# Altium footprint library Connector_Samtec_FSI.PcbLib: 90 footprints (part 4 of 6)
Each footprint in its own frame and in the unit in brackets; x right, y up, seen from the top. Pads: shape width x height; smd on the part's side, far side on the other; paste and mask are expansions set on the pad; w line width, h text height; cw(c..) or ccw(c..) is an arc to the next point about the centre after c.
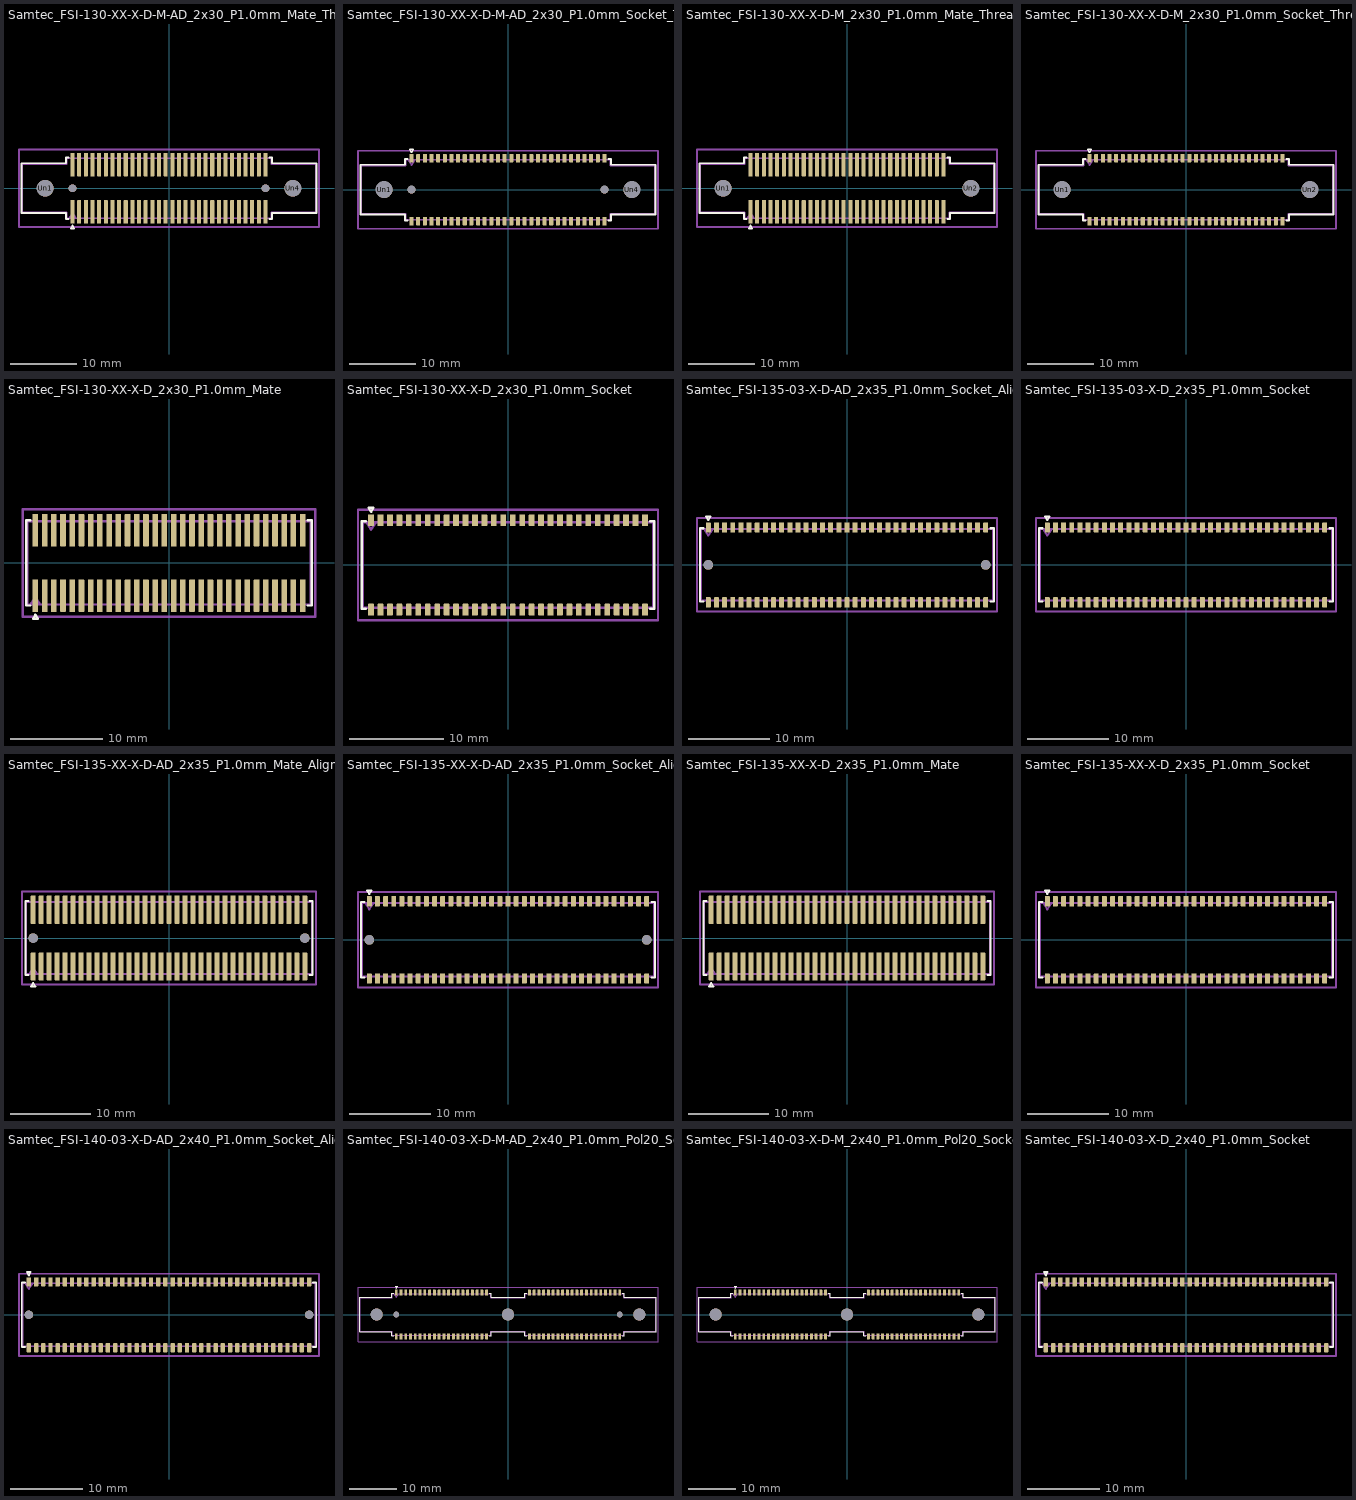
[diagram p3: the footprints below, top view; thin cyan lines are the x and y axes]

## Samtec_FSI-130-XX-X-D-M-AD_2x30_P1.0mm_Mate_Threaded_AlignmentPin [mm]
pads (64):
  rrect25% 0.61x3.55 smd: 1(-14.5,-3.555) 2(-14.5,3.555) 3(-13.5,-3.555) 4(-13.5,3.555) 5(-12.5,-3.555) 6(-12.5,3.555) 7(-11.5,-3.555) 8(-11.5,3.555) 9(-10.5,-3.555) 10(-10.5,3.555) 11(-9.5,-3.555) 12(-9.5,3.555) 13(-8.5,-3.555) 14(-8.5,3.555) 15(-7.5,-3.555) 16(-7.5,3.555) 17(-6.5,-3.555) 18(-6.5,3.555) 19(-5.5,-3.555) 20(-5.5,3.555) 21(-4.5,-3.555) 22(-4.5,3.555) 23(-3.5,-3.555) 24(-3.5,3.555) 25(-2.5,-3.555) 26(-2.5,3.555) 27(-1.5,-3.555) 28(-1.5,3.555) 29(-0.5,-3.555) 30(-0.5,3.555) 31(0.5,-3.555) 32(0.5,3.555) 33(1.5,-3.555) 34(1.5,3.555) 35(2.5,-3.555) 36(2.5,3.555) 37(3.5,-3.555) 38(3.5,3.555) 39(4.5,-3.555) 40(4.5,3.555) 41(5.5,-3.555) 42(5.5,3.555) 43(6.5,-3.555) 44(6.5,3.555) 45(7.5,-3.555) 46(7.5,3.555) 47(8.5,-3.555) 48(8.5,3.555) 49(9.5,-3.555) 50(9.5,3.555) 51(10.5,-3.555) 52(10.5,3.555) 53(11.5,-3.555) 54(11.5,3.555) 55(12.5,-3.555) 56(12.5,3.555) 57(13.5,-3.555) 58(13.5,3.555) 59(14.5,-3.555) 60(14.5,3.555)
  round 2.54 hole 2.54: Un1(-18.62,0) Un4(18.62,0)
  round 1.19 hole 1.19: Un2(-14.5,0) Un3(14.5,0)
F.SilkS:
  lines w0.254: -15.065,-4.618 -15.49,-4.618 -15.49,-3.734 -22.16,-3.734 -22.16,3.734 -15.49,3.734 -15.49,4.618 -15.065,4.618 ; 15.065,-4.618 15.49,-4.618 15.49,-3.734 22.16,-3.734 22.16,3.734 15.49,3.734 15.49,4.618 15.065,4.618 ; -14.764,-6.066 -14.236,-6.066 -14.5,-5.609 -14.764,-6.066
Top Assembly:
  lines w0.254: -15,-4.508 -14.5,-3.708 -14,-4.508 ; -22.05,-3.624 -15.38,-3.624 -15.38,-4.508 15.38,-4.508 15.38,-3.624 22.05,-3.624 22.05,3.624 15.38,3.624 15.38,4.508 -15.38,4.508 -15.38,3.624 -22.05,3.624 -22.05,-3.624
  text "'.Designator'" at -4.047,-0.84 h1
Top Courtyard:
  lines w0.254: -22.55,-5.83 22.55,-5.83 22.55,5.83 -22.55,5.83 -22.55,-5.83
Top Designator:
  text ".Designator" at -7.618,-0.626 h1.52

## Samtec_FSI-130-XX-X-D-M-AD_2x30_P1.0mm_Socket_Threaded_AlignmentPin [mm]
pads (64):
  rrect25% 0.61x1.26 smd: 1(-14.5,4.73) 2(-14.5,-4.73) 3(-13.5,4.73) 4(-13.5,-4.73) 5(-12.5,4.73) 6(-12.5,-4.73) 7(-11.5,4.73) 8(-11.5,-4.73) 9(-10.5,4.73) 10(-10.5,-4.73) 11(-9.5,4.73) 12(-9.5,-4.73) 13(-8.5,4.73) 14(-8.5,-4.73) 15(-7.5,4.73) 16(-7.5,-4.73) 17(-6.5,4.73) 18(-6.5,-4.73) 19(-5.5,4.73) 20(-5.5,-4.73) 21(-4.5,4.73) 22(-4.5,-4.73) 23(-3.5,4.73) 24(-3.5,-4.73) 25(-2.5,4.73) 26(-2.5,-4.73) 27(-1.5,4.73) 28(-1.5,-4.73) 29(-0.5,4.73) 30(-0.5,-4.73) 31(0.5,4.73) 32(0.5,-4.73) 33(1.5,4.73) 34(1.5,-4.73) 35(2.5,4.73) 36(2.5,-4.73) 37(3.5,4.73) 38(3.5,-4.73) 39(4.5,4.73) 40(4.5,-4.73) 41(5.5,4.73) 42(5.5,-4.73) 43(6.5,4.73) 44(6.5,-4.73) 45(7.5,4.73) 46(7.5,-4.73) 47(8.5,4.73) 48(8.5,-4.73) 49(9.5,4.73) 50(9.5,-4.73) 51(10.5,4.73) 52(10.5,-4.73) 53(11.5,4.73) 54(11.5,-4.73) 55(12.5,4.73) 56(12.5,-4.73) 57(13.5,4.73) 58(13.5,-4.73) 59(14.5,4.73) 60(14.5,-4.73)
  round 2.54 hole 2.54: Un1(-18.62,0) Un4(18.62,0)
  round 1.19 hole 1.19: Un2(-14.5,0) Un3(14.5,0)
F.SilkS:
  lines w0.254: -15.065,-4.618 -15.49,-4.618 -15.49,-3.734 -22.16,-3.734 -22.16,3.734 -15.49,3.734 -15.49,4.618 -15.065,4.618 ; -14.507,5.62 -14.764,6.066 -14.236,6.066 -14.493,5.62 ; 15.065,-4.618 15.49,-4.618 15.49,-3.734 22.16,-3.734 22.16,3.734 15.49,3.734 15.49,4.618 15.065,4.618
Top Assembly:
  lines w0.254: -15,4.508 -14.5,3.708 -14,4.508 ; -22.05,-3.624 -15.38,-3.624 -15.38,-4.508 15.38,-4.508 15.38,-3.624 22.05,-3.624 22.05,3.624 15.38,3.624 15.38,4.508 -15.38,4.508 -15.38,3.624 -22.05,3.624 -22.05,-3.624
  text "'.Designator'" at -4.047,-0.84 h1
Top Courtyard:
  lines w0.254: -22.55,-5.86 22.55,-5.86 22.55,5.86 -22.55,5.86 -22.55,-5.86
Top Designator:
  text ".Designator" at -7.618,-0.405 h1.52

## Samtec_FSI-130-XX-X-D-M_2x30_P1.0mm_Mate_Threaded [mm]
pads (62):
  rrect25% 0.61x3.55 smd: 1(-14.5,-3.555) 2(-14.5,3.555) 3(-13.5,-3.555) 4(-13.5,3.555) 5(-12.5,-3.555) 6(-12.5,3.555) 7(-11.5,-3.555) 8(-11.5,3.555) 9(-10.5,-3.555) 10(-10.5,3.555) 11(-9.5,-3.555) 12(-9.5,3.555) 13(-8.5,-3.555) 14(-8.5,3.555) 15(-7.5,-3.555) 16(-7.5,3.555) 17(-6.5,-3.555) 18(-6.5,3.555) 19(-5.5,-3.555) 20(-5.5,3.555) 21(-4.5,-3.555) 22(-4.5,3.555) 23(-3.5,-3.555) 24(-3.5,3.555) 25(-2.5,-3.555) 26(-2.5,3.555) 27(-1.5,-3.555) 28(-1.5,3.555) 29(-0.5,-3.555) 30(-0.5,3.555) 31(0.5,-3.555) 32(0.5,3.555) 33(1.5,-3.555) 34(1.5,3.555) 35(2.5,-3.555) 36(2.5,3.555) 37(3.5,-3.555) 38(3.5,3.555) 39(4.5,-3.555) 40(4.5,3.555) 41(5.5,-3.555) 42(5.5,3.555) 43(6.5,-3.555) 44(6.5,3.555) 45(7.5,-3.555) 46(7.5,3.555) 47(8.5,-3.555) 48(8.5,3.555) 49(9.5,-3.555) 50(9.5,3.555) 51(10.5,-3.555) 52(10.5,3.555) 53(11.5,-3.555) 54(11.5,3.555) 55(12.5,-3.555) 56(12.5,3.555) 57(13.5,-3.555) 58(13.5,3.555) 59(14.5,-3.555) 60(14.5,3.555)
  round 2.54 hole 2.54: Un1(-18.62,0) Un2(18.62,0)
F.SilkS:
  lines w0.254: -15.065,-4.618 -15.49,-4.618 -15.49,-3.734 -22.16,-3.734 -22.16,3.734 -15.49,3.734 -15.49,4.618 -15.065,4.618 ; 15.065,-4.618 15.49,-4.618 15.49,-3.734 22.16,-3.734 22.16,3.734 15.49,3.734 15.49,4.618 15.065,4.618 ; -14.764,-6.066 -14.236,-6.066 -14.5,-5.609 -14.764,-6.066
Top Assembly:
  lines w0.254: -15,-4.508 -14.5,-3.708 -14,-4.508 ; -22.05,-3.624 -15.38,-3.624 -15.38,-4.508 15.38,-4.508 15.38,-3.624 22.05,-3.624 22.05,3.624 15.38,3.624 15.38,4.508 -15.38,4.508 -15.38,3.624 -22.05,3.624 -22.05,-3.624
  text "'.Designator'" at -4.047,-0.84 h1
Top Courtyard:
  lines w0.254: -22.55,-5.83 22.55,-5.83 22.55,5.83 -22.55,5.83 -22.55,-5.83
Top Designator:
  text ".Designator" at -7.618,-0.626 h1.52

## Samtec_FSI-130-XX-X-D-M_2x30_P1.0mm_Socket_Threaded [mm]
pads (62):
  rrect25% 0.61x1.26 smd: 1(-14.5,4.73) 2(-14.5,-4.73) 3(-13.5,4.73) 4(-13.5,-4.73) 5(-12.5,4.73) 6(-12.5,-4.73) 7(-11.5,4.73) 8(-11.5,-4.73) 9(-10.5,4.73) 10(-10.5,-4.73) 11(-9.5,4.73) 12(-9.5,-4.73) 13(-8.5,4.73) 14(-8.5,-4.73) 15(-7.5,4.73) 16(-7.5,-4.73) 17(-6.5,4.73) 18(-6.5,-4.73) 19(-5.5,4.73) 20(-5.5,-4.73) 21(-4.5,4.73) 22(-4.5,-4.73) 23(-3.5,4.73) 24(-3.5,-4.73) 25(-2.5,4.73) 26(-2.5,-4.73) 27(-1.5,4.73) 28(-1.5,-4.73) 29(-0.5,4.73) 30(-0.5,-4.73) 31(0.5,4.73) 32(0.5,-4.73) 33(1.5,4.73) 34(1.5,-4.73) 35(2.5,4.73) 36(2.5,-4.73) 37(3.5,4.73) 38(3.5,-4.73) 39(4.5,4.73) 40(4.5,-4.73) 41(5.5,4.73) 42(5.5,-4.73) 43(6.5,4.73) 44(6.5,-4.73) 45(7.5,4.73) 46(7.5,-4.73) 47(8.5,4.73) 48(8.5,-4.73) 49(9.5,4.73) 50(9.5,-4.73) 51(10.5,4.73) 52(10.5,-4.73) 53(11.5,4.73) 54(11.5,-4.73) 55(12.5,4.73) 56(12.5,-4.73) 57(13.5,4.73) 58(13.5,-4.73) 59(14.5,4.73) 60(14.5,-4.73)
  round 2.54 hole 2.54: Un1(-18.62,0) Un2(18.62,0)
F.SilkS:
  lines w0.254: -15.065,-4.618 -15.49,-4.618 -15.49,-3.734 -22.16,-3.734 -22.16,3.734 -15.49,3.734 -15.49,4.618 -15.065,4.618 ; -14.507,5.62 -14.764,6.066 -14.236,6.066 -14.493,5.62 ; 15.065,-4.618 15.49,-4.618 15.49,-3.734 22.16,-3.734 22.16,3.734 15.49,3.734 15.49,4.618 15.065,4.618
Top Assembly:
  lines w0.254: -15,4.508 -14.5,3.708 -14,4.508 ; -22.05,-3.624 -15.38,-3.624 -15.38,-4.508 15.38,-4.508 15.38,-3.624 22.05,-3.624 22.05,3.624 15.38,3.624 15.38,4.508 -15.38,4.508 -15.38,3.624 -22.05,3.624 -22.05,-3.624
  text "'.Designator'" at -4.047,-0.84 h1
Top Courtyard:
  lines w0.254: -22.55,-5.86 22.55,-5.86 22.55,5.86 -22.55,5.86 -22.55,-5.86
Top Designator:
  text ".Designator" at -7.618,-0.405 h1.52

## Samtec_FSI-130-XX-X-D_2x30_P1.0mm_Mate [mm]
pads (60):
  rrect25% 0.61x3.55 smd: 1(-14.5,-3.555) 2(-14.5,3.555) 3(-13.5,-3.555) 4(-13.5,3.555) 5(-12.5,-3.555) 6(-12.5,3.555) 7(-11.5,-3.555) 8(-11.5,3.555) 9(-10.5,-3.555) 10(-10.5,3.555) 11(-9.5,-3.555) 12(-9.5,3.555) 13(-8.5,-3.555) 14(-8.5,3.555) 15(-7.5,-3.555) 16(-7.5,3.555) 17(-6.5,-3.555) 18(-6.5,3.555) 19(-5.5,-3.555) 20(-5.5,3.555) 21(-4.5,-3.555) 22(-4.5,3.555) 23(-3.5,-3.555) 24(-3.5,3.555) 25(-2.5,-3.555) 26(-2.5,3.555) 27(-1.5,-3.555) 28(-1.5,3.555) 29(-0.5,-3.555) 30(-0.5,3.555) 31(0.5,-3.555) 32(0.5,3.555) 33(1.5,-3.555) 34(1.5,3.555) 35(2.5,-3.555) 36(2.5,3.555) 37(3.5,-3.555) 38(3.5,3.555) 39(4.5,-3.555) 40(4.5,3.555) 41(5.5,-3.555) 42(5.5,3.555) 43(6.5,-3.555) 44(6.5,3.555) 45(7.5,-3.555) 46(7.5,3.555) 47(8.5,-3.555) 48(8.5,3.555) 49(9.5,-3.555) 50(9.5,3.555) 51(10.5,-3.555) 52(10.5,3.555) 53(11.5,-3.555) 54(11.5,3.555) 55(12.5,-3.555) 56(12.5,3.555) 57(13.5,-3.555) 58(13.5,3.555) 59(14.5,-3.555) 60(14.5,3.555)
F.SilkS:
  lines w0.254: -15.065,-4.618 -15.49,-4.618 -15.49,4.618 -15.065,4.618 ; 15.065,-4.618 15.49,-4.618 15.49,4.618 15.065,4.618 ; -14.764,-6.066 -14.236,-6.066 -14.5,-5.609 -14.764,-6.066
Top Assembly:
  lines w0.254: -15,-4.508 -14.5,-3.708 -14,-4.508 ; -15.38,-4.508 15.38,-4.508 15.38,4.508 -15.38,4.508 -15.38,-4.508
  text "'.Designator'" at -4.047,-0.84 h1
Top Courtyard:
  lines w0.254: -15.88,-5.83 15.88,-5.83 15.88,5.83 -15.88,5.83 -15.88,-5.83
Top Designator:
  text ".Designator" at -7.618,-0.626 h1.52

## Samtec_FSI-130-XX-X-D_2x30_P1.0mm_Socket [mm]
pads (60):
  rrect25% 0.61x1.26 smd: 1(-14.5,4.73) 2(-14.5,-4.73) 3(-13.5,4.73) 4(-13.5,-4.73) 5(-12.5,4.73) 6(-12.5,-4.73) 7(-11.5,4.73) 8(-11.5,-4.73) 9(-10.5,4.73) 10(-10.5,-4.73) 11(-9.5,4.73) 12(-9.5,-4.73) 13(-8.5,4.73) 14(-8.5,-4.73) 15(-7.5,4.73) 16(-7.5,-4.73) 17(-6.5,4.73) 18(-6.5,-4.73) 19(-5.5,4.73) 20(-5.5,-4.73) 21(-4.5,4.73) 22(-4.5,-4.73) 23(-3.5,4.73) 24(-3.5,-4.73) 25(-2.5,4.73) 26(-2.5,-4.73) 27(-1.5,4.73) 28(-1.5,-4.73) 29(-0.5,4.73) 30(-0.5,-4.73) 31(0.5,4.73) 32(0.5,-4.73) 33(1.5,4.73) 34(1.5,-4.73) 35(2.5,4.73) 36(2.5,-4.73) 37(3.5,4.73) 38(3.5,-4.73) 39(4.5,4.73) 40(4.5,-4.73) 41(5.5,4.73) 42(5.5,-4.73) 43(6.5,4.73) 44(6.5,-4.73) 45(7.5,4.73) 46(7.5,-4.73) 47(8.5,4.73) 48(8.5,-4.73) 49(9.5,4.73) 50(9.5,-4.73) 51(10.5,4.73) 52(10.5,-4.73) 53(11.5,4.73) 54(11.5,-4.73) 55(12.5,4.73) 56(12.5,-4.73) 57(13.5,4.73) 58(13.5,-4.73) 59(14.5,4.73) 60(14.5,-4.73)
F.SilkS:
  lines w0.254: -15.065,-4.618 -15.49,-4.618 -15.49,4.618 -15.065,4.618 ; -14.507,5.62 -14.764,6.066 -14.236,6.066 -14.493,5.62 ; 15.065,-4.618 15.49,-4.618 15.49,4.618 15.065,4.618
Top Assembly:
  lines w0.254: -15,4.508 -14.5,3.708 -14,4.508 ; -15.38,-4.508 15.38,-4.508 15.38,4.508 -15.38,4.508 -15.38,-4.508
  text "'.Designator'" at -4.047,-0.84 h1
Top Courtyard:
  lines w0.254: -15.88,-5.86 15.88,-5.86 15.88,5.86 -15.88,5.86 -15.88,-5.86
Top Designator:
  text ".Designator" at -7.618,-0.405 h1.52

## Samtec_FSI-135-03-X-D-AD_2x35_P1.0mm_Socket_AlignmentPin [mm]
pads (72):
  rrect25% 0.61x1.26 smd: 1(-17,4.59) 2(-17,-4.59) 3(-16,4.59) 4(-16,-4.59) 5(-15,4.59) 6(-15,-4.59) 7(-14,4.59) 8(-14,-4.59) 9(-13,4.59) 10(-13,-4.59) 11(-12,4.59) 12(-12,-4.59) 13(-11,4.59) 14(-11,-4.59) 15(-10,4.59) 16(-10,-4.59) 17(-9,4.59) 18(-9,-4.59) 19(-8,4.59) 20(-8,-4.59) 21(-7,4.59) 22(-7,-4.59) 23(-6,4.59) 24(-6,-4.59) 25(-5,4.59) 26(-5,-4.59) 27(-4,4.59) 28(-4,-4.59) 29(-3,4.59) 30(-3,-4.59) 31(-2,4.59) 32(-2,-4.59) 33(-1,4.59) 34(-1,-4.59) 35(0,4.59) 36(0,-4.59) 37(1,4.59) 38(1,-4.59) 39(2,4.59) 40(2,-4.59) 41(3,4.59) 42(3,-4.59) 43(4,4.59) 44(4,-4.59) 45(5,4.59) 46(5,-4.59) 47(6,4.59) 48(6,-4.59) 49(7,4.59) 50(7,-4.59) 51(8,4.59) 52(8,-4.59) 53(9,4.59) 54(9,-4.59) 55(10,4.59) 56(10,-4.59) 57(11,4.59) 58(11,-4.59) 59(12,4.59) 60(12,-4.59) 61(13,4.59) 62(13,-4.59) 63(14,4.59) 64(14,-4.59) 65(15,4.59) 66(15,-4.59) 67(16,4.59) 68(16,-4.59) 69(17,4.59) 70(17,-4.59)
  round 1.19 hole 1.19: Un1(-17,0) Un2(17,0)
F.SilkS:
  lines w0.254: -17.565,-4.49 -17.99,-4.49 -17.99,4.49 -17.565,4.49 ; 17.565,-4.49 17.99,-4.49 17.99,4.49 17.565,4.49 ; -17.264,5.937 -16.736,5.937 -17,5.48 -17.264,5.937
Top Assembly:
  lines w0.254: -17.5,4.38 -17,3.58 -16.5,4.38 ; -17.88,-4.38 17.88,-4.38 17.88,4.38 -17.88,4.38 -17.88,-4.38
  text "'.Designator'" at -4.047,-0.84 h1
Top Courtyard:
  lines w0.254: -18.38,-5.72 18.38,-5.72 18.38,5.72 -18.38,5.72 -18.38,-5.72
Top Designator:
  text ".Designator" at -7.618,-0.399 h1.52

## Samtec_FSI-135-03-X-D_2x35_P1.0mm_Socket [mm]
pads (70):
  rrect25% 0.61x1.26 smd: 1(-17,4.59) 2(-17,-4.59) 3(-16,4.59) 4(-16,-4.59) 5(-15,4.59) 6(-15,-4.59) 7(-14,4.59) 8(-14,-4.59) 9(-13,4.59) 10(-13,-4.59) 11(-12,4.59) 12(-12,-4.59) 13(-11,4.59) 14(-11,-4.59) 15(-10,4.59) 16(-10,-4.59) 17(-9,4.59) 18(-9,-4.59) 19(-8,4.59) 20(-8,-4.59) 21(-7,4.59) 22(-7,-4.59) 23(-6,4.59) 24(-6,-4.59) 25(-5,4.59) 26(-5,-4.59) 27(-4,4.59) 28(-4,-4.59) 29(-3,4.59) 30(-3,-4.59) 31(-2,4.59) 32(-2,-4.59) 33(-1,4.59) 34(-1,-4.59) 35(0,4.59) 36(0,-4.59) 37(1,4.59) 38(1,-4.59) 39(2,4.59) 40(2,-4.59) 41(3,4.59) 42(3,-4.59) 43(4,4.59) 44(4,-4.59) 45(5,4.59) 46(5,-4.59) 47(6,4.59) 48(6,-4.59) 49(7,4.59) 50(7,-4.59) 51(8,4.59) 52(8,-4.59) 53(9,4.59) 54(9,-4.59) 55(10,4.59) 56(10,-4.59) 57(11,4.59) 58(11,-4.59) 59(12,4.59) 60(12,-4.59) 61(13,4.59) 62(13,-4.59) 63(14,4.59) 64(14,-4.59) 65(15,4.59) 66(15,-4.59) 67(16,4.59) 68(16,-4.59) 69(17,4.59) 70(17,-4.59)
F.SilkS:
  lines w0.254: -17.565,-4.49 -17.99,-4.49 -17.99,4.49 -17.565,4.49 ; 17.565,-4.49 17.99,-4.49 17.99,4.49 17.565,4.49 ; -17.264,5.937 -16.736,5.937 -17,5.48 -17.264,5.937
Top Assembly:
  lines w0.254: -17.5,4.38 -17,3.58 -16.5,4.38 ; -17.88,-4.38 17.88,-4.38 17.88,4.38 -17.88,4.38 -17.88,-4.38
  text "'.Designator'" at -4.047,-0.84 h1
Top Courtyard:
  lines w0.254: -18.38,-5.72 18.38,-5.72 18.38,5.72 -18.38,5.72 -18.38,-5.72
Top Designator:
  text ".Designator" at -7.618,-0.399 h1.52

## Samtec_FSI-135-XX-X-D-AD_2x35_P1.0mm_Mate_AlignmentPin [mm]
pads (72):
  rrect25% 0.61x3.55 smd: 1(-17,-3.555) 2(-17,3.555) 3(-16,-3.555) 4(-16,3.555) 5(-15,-3.555) 6(-15,3.555) 7(-14,-3.555) 8(-14,3.555) 9(-13,-3.555) 10(-13,3.555) 11(-12,-3.555) 12(-12,3.555) 13(-11,-3.555) 14(-11,3.555) 15(-10,-3.555) 16(-10,3.555) 17(-9,-3.555) 18(-9,3.555) 19(-8,-3.555) 20(-8,3.555) 21(-7,-3.555) 22(-7,3.555) 23(-6,-3.555) 24(-6,3.555) 25(-5,-3.555) 26(-5,3.555) 27(-4,-3.555) 28(-4,3.555) 29(-3,-3.555) 30(-3,3.555) 31(-2,-3.555) 32(-2,3.555) 33(-1,-3.555) 34(-1,3.555) 35(0,-3.555) 36(0,3.555) 37(1,-3.555) 38(1,3.555) 39(2,-3.555) 40(2,3.555) 41(3,-3.555) 42(3,3.555) 43(4,-3.555) 44(4,3.555) 45(5,-3.555) 46(5,3.555) 47(6,-3.555) 48(6,3.555) 49(7,-3.555) 50(7,3.555) 51(8,-3.555) 52(8,3.555) 53(9,-3.555) 54(9,3.555) 55(10,-3.555) 56(10,3.555) 57(11,-3.555) 58(11,3.555) 59(12,-3.555) 60(12,3.555) 61(13,-3.555) 62(13,3.555) 63(14,-3.555) 64(14,3.555) 65(15,-3.555) 66(15,3.555) 67(16,-3.555) 68(16,3.555) 69(17,-3.555) 70(17,3.555)
  round 1.19 hole 1.19: Un1(-17,0) Un2(17,0)
F.SilkS:
  lines w0.254: -17.565,-4.618 -17.99,-4.618 -17.99,4.618 -17.565,4.618 ; 17.565,-4.618 17.99,-4.618 17.99,4.618 17.565,4.618 ; -17.264,-6.066 -16.736,-6.066 -17,-5.609 -17.264,-6.066
Top Assembly:
  lines w0.254: -17.5,-4.508 -17,-3.708 -16.5,-4.508 ; -17.88,-4.508 17.88,-4.508 17.88,4.508 -17.88,4.508 -17.88,-4.508
  text "'.Designator'" at -4.047,-0.84 h1
Top Courtyard:
  lines w0.254: -18.38,-5.83 18.38,-5.83 18.38,5.83 -18.38,5.83 -18.38,-5.83
Top Designator:
  text ".Designator" at -7.618,-0.626 h1.52

## Samtec_FSI-135-XX-X-D-AD_2x35_P1.0mm_Socket_AlignmentPin [mm]
pads (72):
  rrect25% 0.61x1.26 smd: 1(-17,4.73) 2(-17,-4.73) 3(-16,4.73) 4(-16,-4.73) 5(-15,4.73) 6(-15,-4.73) 7(-14,4.73) 8(-14,-4.73) 9(-13,4.73) 10(-13,-4.73) 11(-12,4.73) 12(-12,-4.73) 13(-11,4.73) 14(-11,-4.73) 15(-10,4.73) 16(-10,-4.73) 17(-9,4.73) 18(-9,-4.73) 19(-8,4.73) 20(-8,-4.73) 21(-7,4.73) 22(-7,-4.73) 23(-6,4.73) 24(-6,-4.73) 25(-5,4.73) 26(-5,-4.73) 27(-4,4.73) 28(-4,-4.73) 29(-3,4.73) 30(-3,-4.73) 31(-2,4.73) 32(-2,-4.73) 33(-1,4.73) 34(-1,-4.73) 35(0,4.73) 36(0,-4.73) 37(1,4.73) 38(1,-4.73) 39(2,4.73) 40(2,-4.73) 41(3,4.73) 42(3,-4.73) 43(4,4.73) 44(4,-4.73) 45(5,4.73) 46(5,-4.73) 47(6,4.73) 48(6,-4.73) 49(7,4.73) 50(7,-4.73) 51(8,4.73) 52(8,-4.73) 53(9,4.73) 54(9,-4.73) 55(10,4.73) 56(10,-4.73) 57(11,4.73) 58(11,-4.73) 59(12,4.73) 60(12,-4.73) 61(13,4.73) 62(13,-4.73) 63(14,4.73) 64(14,-4.73) 65(15,4.73) 66(15,-4.73) 67(16,4.73) 68(16,-4.73) 69(17,4.73) 70(17,-4.73)
  round 1.19 hole 1.19: Un1(-17,0) Un2(17,0)
F.SilkS:
  lines w0.254: -17.565,-4.618 -17.99,-4.618 -17.99,4.618 -17.565,4.618 ; -17.007,5.62 -17.264,6.066 -16.736,6.066 -16.993,5.62 ; 17.565,-4.618 17.99,-4.618 17.99,4.618 17.565,4.618
Top Assembly:
  lines w0.254: -17.5,4.508 -17,3.708 -16.5,4.508 ; -17.88,-4.508 17.88,-4.508 17.88,4.508 -17.88,4.508 -17.88,-4.508
  text "'.Designator'" at -4.047,-0.84 h1
Top Courtyard:
  lines w0.254: -18.38,-5.86 18.38,-5.86 18.38,5.86 -18.38,5.86 -18.38,-5.86
Top Designator:
  text ".Designator" at -7.618,-0.405 h1.52

## Samtec_FSI-135-XX-X-D_2x35_P1.0mm_Mate [mm]
pads (70):
  rrect25% 0.61x3.55 smd: 1(-17,-3.555) 2(-17,3.555) 3(-16,-3.555) 4(-16,3.555) 5(-15,-3.555) 6(-15,3.555) 7(-14,-3.555) 8(-14,3.555) 9(-13,-3.555) 10(-13,3.555) 11(-12,-3.555) 12(-12,3.555) 13(-11,-3.555) 14(-11,3.555) 15(-10,-3.555) 16(-10,3.555) 17(-9,-3.555) 18(-9,3.555) 19(-8,-3.555) 20(-8,3.555) 21(-7,-3.555) 22(-7,3.555) 23(-6,-3.555) 24(-6,3.555) 25(-5,-3.555) 26(-5,3.555) 27(-4,-3.555) 28(-4,3.555) 29(-3,-3.555) 30(-3,3.555) 31(-2,-3.555) 32(-2,3.555) 33(-1,-3.555) 34(-1,3.555) 35(0,-3.555) 36(0,3.555) 37(1,-3.555) 38(1,3.555) 39(2,-3.555) 40(2,3.555) 41(3,-3.555) 42(3,3.555) 43(4,-3.555) 44(4,3.555) 45(5,-3.555) 46(5,3.555) 47(6,-3.555) 48(6,3.555) 49(7,-3.555) 50(7,3.555) 51(8,-3.555) 52(8,3.555) 53(9,-3.555) 54(9,3.555) 55(10,-3.555) 56(10,3.555) 57(11,-3.555) 58(11,3.555) 59(12,-3.555) 60(12,3.555) 61(13,-3.555) 62(13,3.555) 63(14,-3.555) 64(14,3.555) 65(15,-3.555) 66(15,3.555) 67(16,-3.555) 68(16,3.555) 69(17,-3.555) 70(17,3.555)
F.SilkS:
  lines w0.254: -17.565,-4.618 -17.99,-4.618 -17.99,4.618 -17.565,4.618 ; 17.565,-4.618 17.99,-4.618 17.99,4.618 17.565,4.618 ; -17.264,-6.066 -16.736,-6.066 -17,-5.609 -17.264,-6.066
Top Assembly:
  lines w0.254: -17.5,-4.508 -17,-3.708 -16.5,-4.508 ; -17.88,-4.508 17.88,-4.508 17.88,4.508 -17.88,4.508 -17.88,-4.508
  text "'.Designator'" at -4.047,-0.84 h1
Top Courtyard:
  lines w0.254: -18.38,-5.83 18.38,-5.83 18.38,5.83 -18.38,5.83 -18.38,-5.83
Top Designator:
  text ".Designator" at -7.618,-0.626 h1.52

## Samtec_FSI-135-XX-X-D_2x35_P1.0mm_Socket [mm]
pads (70):
  rrect25% 0.61x1.26 smd: 1(-17,4.73) 2(-17,-4.73) 3(-16,4.73) 4(-16,-4.73) 5(-15,4.73) 6(-15,-4.73) 7(-14,4.73) 8(-14,-4.73) 9(-13,4.73) 10(-13,-4.73) 11(-12,4.73) 12(-12,-4.73) 13(-11,4.73) 14(-11,-4.73) 15(-10,4.73) 16(-10,-4.73) 17(-9,4.73) 18(-9,-4.73) 19(-8,4.73) 20(-8,-4.73) 21(-7,4.73) 22(-7,-4.73) 23(-6,4.73) 24(-6,-4.73) 25(-5,4.73) 26(-5,-4.73) 27(-4,4.73) 28(-4,-4.73) 29(-3,4.73) 30(-3,-4.73) 31(-2,4.73) 32(-2,-4.73) 33(-1,4.73) 34(-1,-4.73) 35(0,4.73) 36(0,-4.73) 37(1,4.73) 38(1,-4.73) 39(2,4.73) 40(2,-4.73) 41(3,4.73) 42(3,-4.73) 43(4,4.73) 44(4,-4.73) 45(5,4.73) 46(5,-4.73) 47(6,4.73) 48(6,-4.73) 49(7,4.73) 50(7,-4.73) 51(8,4.73) 52(8,-4.73) 53(9,4.73) 54(9,-4.73) 55(10,4.73) 56(10,-4.73) 57(11,4.73) 58(11,-4.73) 59(12,4.73) 60(12,-4.73) 61(13,4.73) 62(13,-4.73) 63(14,4.73) 64(14,-4.73) 65(15,4.73) 66(15,-4.73) 67(16,4.73) 68(16,-4.73) 69(17,4.73) 70(17,-4.73)
F.SilkS:
  lines w0.254: -17.565,-4.618 -17.99,-4.618 -17.99,4.618 -17.565,4.618 ; -17.007,5.62 -17.264,6.066 -16.736,6.066 -16.993,5.62 ; 17.565,-4.618 17.99,-4.618 17.99,4.618 17.565,4.618
Top Assembly:
  lines w0.254: -17.5,4.508 -17,3.708 -16.5,4.508 ; -17.88,-4.508 17.88,-4.508 17.88,4.508 -17.88,4.508 -17.88,-4.508
  text "'.Designator'" at -4.047,-0.84 h1
Top Courtyard:
  lines w0.254: -18.38,-5.86 18.38,-5.86 18.38,5.86 -18.38,5.86 -18.38,-5.86
Top Designator:
  text ".Designator" at -7.618,-0.405 h1.52

## Samtec_FSI-140-03-X-D-AD_2x40_P1.0mm_Socket_AlignmentPin [mm]
pads (82):
  rrect25% 0.61x1.26 smd: 1(-19.5,4.59) 2(-19.5,-4.59) 3(-18.5,4.59) 4(-18.5,-4.59) 5(-17.5,4.59) 6(-17.5,-4.59) 7(-16.5,4.59) 8(-16.5,-4.59) 9(-15.5,4.59) 10(-15.5,-4.59) 11(-14.5,4.59) 12(-14.5,-4.59) 13(-13.5,4.59) 14(-13.5,-4.59) 15(-12.5,4.59) 16(-12.5,-4.59) 17(-11.5,4.59) 18(-11.5,-4.59) 19(-10.5,4.59) 20(-10.5,-4.59) 21(-9.5,4.59) 22(-9.5,-4.59) 23(-8.5,4.59) 24(-8.5,-4.59) 25(-7.5,4.59) 26(-7.5,-4.59) 27(-6.5,4.59) 28(-6.5,-4.59) 29(-5.5,4.59) 30(-5.5,-4.59) 31(-4.5,4.59) 32(-4.5,-4.59) 33(-3.5,4.59) 34(-3.5,-4.59) 35(-2.5,4.59) 36(-2.5,-4.59) 37(-1.5,4.59) 38(-1.5,-4.59) 39(-0.5,4.59) 40(-0.5,-4.59) 41(0.5,4.59) 42(0.5,-4.59) 43(1.5,4.59) 44(1.5,-4.59) 45(2.5,4.59) 46(2.5,-4.59) 47(3.5,4.59) 48(3.5,-4.59) 49(4.5,4.59) 50(4.5,-4.59) 51(5.5,4.59) 52(5.5,-4.59) 53(6.5,4.59) 54(6.5,-4.59) 55(7.5,4.59) 56(7.5,-4.59) 57(8.5,4.59) 58(8.5,-4.59) 59(9.5,4.59) 60(9.5,-4.59) 61(10.5,4.59) 62(10.5,-4.59) 63(11.5,4.59) 64(11.5,-4.59) 65(12.5,4.59) 66(12.5,-4.59) 67(13.5,4.59) 68(13.5,-4.59) 69(14.5,4.59) 70(14.5,-4.59) 71(15.5,4.59) 72(15.5,-4.59) 73(16.5,4.59) 74(16.5,-4.59) 75(17.5,4.59) 76(17.5,-4.59) 77(18.5,4.59) 78(18.5,-4.59) 79(19.5,4.59) 80(19.5,-4.59)
  round 1.19 hole 1.19: Un1(-19.5,0) Un2(19.5,0)
F.SilkS:
  lines w0.254: -20.065,-4.49 -20.49,-4.49 -20.49,4.49 -20.065,4.49 ; 20.065,-4.49 20.49,-4.49 20.49,4.49 20.065,4.49 ; -19.764,5.937 -19.236,5.937 -19.5,5.48 -19.764,5.937
Top Assembly:
  lines w0.254: -20,4.38 -19.5,3.58 -19,4.38 ; -20.38,-4.38 20.38,-4.38 20.38,4.38 -20.38,4.38 -20.38,-4.38
  text "'.Designator'" at -4.047,-0.84 h1
Top Courtyard:
  lines w0.254: -20.88,-5.72 20.88,-5.72 20.88,5.72 -20.88,5.72 -20.88,-5.72
Top Designator:
  text ".Designator" at -7.618,-0.399 h1.52

## Samtec_FSI-140-03-X-D-M-AD_2x40_P1.0mm_Pol20_Socket_Threaded_AlignmentPin [mm]
pads (85):
  rrect25% 0.61x1.26 smd: 1(-23.5,4.59) 2(-23.5,-4.59) 3(-22.5,4.59) 4(-22.5,-4.59) 5(-21.5,4.59) 6(-21.5,-4.59) 7(-20.5,4.59) 8(-20.5,-4.59) 9(-19.5,4.59) 10(-19.5,-4.59) 11(-18.5,4.59) 12(-18.5,-4.59) 13(-17.5,4.59) 14(-17.5,-4.59) 15(-16.5,4.59) 16(-16.5,-4.59) 17(-15.5,4.59) 18(-15.5,-4.59) 19(-14.5,4.59) 20(-14.5,-4.59) 21(-13.5,4.59) 22(-13.5,-4.59) 23(-12.5,4.59) 24(-12.5,-4.59) 25(-11.5,4.59) 26(-11.5,-4.59) 27(-10.5,4.59) 28(-10.5,-4.59) 29(-9.5,4.59) 30(-9.5,-4.59) 31(-8.5,4.59) 32(-8.5,-4.59) 33(-7.5,4.59) 34(-7.5,-4.59) 35(-6.5,4.59) 36(-6.5,-4.59) 37(-5.5,4.59) 38(-5.5,-4.59) 39(-4.5,4.59) 40(-4.5,-4.59) 41(4.5,4.59) 42(4.5,-4.59) 43(5.5,4.59) 44(5.5,-4.59) 45(6.5,4.59) 46(6.5,-4.59) 47(7.5,4.59) 48(7.5,-4.59) 49(8.5,4.59) 50(8.5,-4.59) 51(9.5,4.59) 52(9.5,-4.59) 53(10.5,4.59) 54(10.5,-4.59) 55(11.5,4.59) 56(11.5,-4.59) 57(12.5,4.59) 58(12.5,-4.59) 59(13.5,4.59) 60(13.5,-4.59) 61(14.5,4.59) 62(14.5,-4.59) 63(15.5,4.59) 64(15.5,-4.59) 65(16.5,4.59) 66(16.5,-4.59) 67(17.5,4.59) 68(17.5,-4.59) 69(18.5,4.59) 70(18.5,-4.59) 71(19.5,4.59) 72(19.5,-4.59) 73(20.5,4.59) 74(20.5,-4.59) 75(21.5,4.59) 76(21.5,-4.59) 77(22.5,4.59) 78(22.5,-4.59) 79(23.5,4.59) 80(23.5,-4.59)
  round 2.54 hole 2.54: Un1(-27.62,0) Un3(0,0) Un5(27.62,0)
  round 1.19 hole 1.19: Un2(-23.5,0) Un4(23.5,0)
F.SilkS:
  lines w0.254: -24.065,-4.49 -24.49,-4.49 -24.49,-3.605 -31.16,-3.605 -31.16,3.605 -24.49,3.605 -24.49,4.49 -24.065,4.49 ; -3.935,-4.49 -3.51,-4.49 -3.51,-3.605 3.51,-3.605 3.51,-4.49 3.935,-4.49 ; -3.935,4.49 -3.51,4.49 -3.51,3.605 3.51,3.605 3.51,4.49 3.935,4.49 ; 24.065,-4.49 24.49,-4.49 24.49,-3.605 31.16,-3.605 31.16,3.605 24.49,3.605 24.49,4.49 24.065,4.49 ; -23.764,5.937 -23.236,5.937 -23.5,5.48 -23.764,5.937
Top Assembly:
  lines w0.254: -24,4.38 -23.5,3.58 -23,4.38 ; -31.05,-3.495 -24.38,-3.495 -24.38,-4.38 -3.62,-4.38 -3.62,-3.495 3.62,-3.495 3.62,-4.38 24.38,-4.38 24.38,-3.495 31.05,-3.495 31.05,3.495 24.38,3.495 24.38,4.38 3.62,4.38 3.62,3.495 -3.62,3.495 -3.62,4.38 -24.38,4.38 -24.38,3.495 -31.05,3.495 -31.05,-3.495
  text "'.Designator'" at -4.047,-0.84 h1
Top Courtyard:
  lines w0.254: -31.55,-5.72 31.55,-5.72 31.55,5.72 -31.55,5.72 -31.55,-5.72
Top Designator:
  text ".Designator" at -7.618,-0.399 h1.52

## Samtec_FSI-140-03-X-D-M_2x40_P1.0mm_Pol20_Socket_Threaded [mm]
pads (83):
  rrect25% 0.61x1.26 smd: 1(-23.5,4.59) 2(-23.5,-4.59) 3(-22.5,4.59) 4(-22.5,-4.59) 5(-21.5,4.59) 6(-21.5,-4.59) 7(-20.5,4.59) 8(-20.5,-4.59) 9(-19.5,4.59) 10(-19.5,-4.59) 11(-18.5,4.59) 12(-18.5,-4.59) 13(-17.5,4.59) 14(-17.5,-4.59) 15(-16.5,4.59) 16(-16.5,-4.59) 17(-15.5,4.59) 18(-15.5,-4.59) 19(-14.5,4.59) 20(-14.5,-4.59) 21(-13.5,4.59) 22(-13.5,-4.59) 23(-12.5,4.59) 24(-12.5,-4.59) 25(-11.5,4.59) 26(-11.5,-4.59) 27(-10.5,4.59) 28(-10.5,-4.59) 29(-9.5,4.59) 30(-9.5,-4.59) 31(-8.5,4.59) 32(-8.5,-4.59) 33(-7.5,4.59) 34(-7.5,-4.59) 35(-6.5,4.59) 36(-6.5,-4.59) 37(-5.5,4.59) 38(-5.5,-4.59) 39(-4.5,4.59) 40(-4.5,-4.59) 41(4.5,4.59) 42(4.5,-4.59) 43(5.5,4.59) 44(5.5,-4.59) 45(6.5,4.59) 46(6.5,-4.59) 47(7.5,4.59) 48(7.5,-4.59) 49(8.5,4.59) 50(8.5,-4.59) 51(9.5,4.59) 52(9.5,-4.59) 53(10.5,4.59) 54(10.5,-4.59) 55(11.5,4.59) 56(11.5,-4.59) 57(12.5,4.59) 58(12.5,-4.59) 59(13.5,4.59) 60(13.5,-4.59) 61(14.5,4.59) 62(14.5,-4.59) 63(15.5,4.59) 64(15.5,-4.59) 65(16.5,4.59) 66(16.5,-4.59) 67(17.5,4.59) 68(17.5,-4.59) 69(18.5,4.59) 70(18.5,-4.59) 71(19.5,4.59) 72(19.5,-4.59) 73(20.5,4.59) 74(20.5,-4.59) 75(21.5,4.59) 76(21.5,-4.59) 77(22.5,4.59) 78(22.5,-4.59) 79(23.5,4.59) 80(23.5,-4.59)
  round 2.54 hole 2.54: Un1(-27.62,0) Un2(0,0) Un3(27.62,0)
F.SilkS:
  lines w0.254: -24.065,-4.49 -24.49,-4.49 -24.49,-3.605 -31.16,-3.605 -31.16,3.605 -24.49,3.605 -24.49,4.49 -24.065,4.49 ; -3.935,-4.49 -3.51,-4.49 -3.51,-3.605 3.51,-3.605 3.51,-4.49 3.935,-4.49 ; -3.935,4.49 -3.51,4.49 -3.51,3.605 3.51,3.605 3.51,4.49 3.935,4.49 ; 24.065,-4.49 24.49,-4.49 24.49,-3.605 31.16,-3.605 31.16,3.605 24.49,3.605 24.49,4.49 24.065,4.49 ; -23.764,5.937 -23.236,5.937 -23.5,5.48 -23.764,5.937
Top Assembly:
  lines w0.254: -24,4.38 -23.5,3.58 -23,4.38 ; -31.05,-3.495 -24.38,-3.495 -24.38,-4.38 -3.62,-4.38 -3.62,-3.495 3.62,-3.495 3.62,-4.38 24.38,-4.38 24.38,-3.495 31.05,-3.495 31.05,3.495 24.38,3.495 24.38,4.38 3.62,4.38 3.62,3.495 -3.62,3.495 -3.62,4.38 -24.38,4.38 -24.38,3.495 -31.05,3.495 -31.05,-3.495
  text "'.Designator'" at -4.047,-0.84 h1
Top Courtyard:
  lines w0.254: -31.55,-5.72 31.55,-5.72 31.55,5.72 -31.55,5.72 -31.55,-5.72
Top Designator:
  text ".Designator" at -7.618,-0.399 h1.52

## Samtec_FSI-140-03-X-D_2x40_P1.0mm_Socket [mm]
pads (80):
  rrect25% 0.61x1.26 smd: 1(-19.5,4.59) 2(-19.5,-4.59) 3(-18.5,4.59) 4(-18.5,-4.59) 5(-17.5,4.59) 6(-17.5,-4.59) 7(-16.5,4.59) 8(-16.5,-4.59) 9(-15.5,4.59) 10(-15.5,-4.59) 11(-14.5,4.59) 12(-14.5,-4.59) 13(-13.5,4.59) 14(-13.5,-4.59) 15(-12.5,4.59) 16(-12.5,-4.59) 17(-11.5,4.59) 18(-11.5,-4.59) 19(-10.5,4.59) 20(-10.5,-4.59) 21(-9.5,4.59) 22(-9.5,-4.59) 23(-8.5,4.59) 24(-8.5,-4.59) 25(-7.5,4.59) 26(-7.5,-4.59) 27(-6.5,4.59) 28(-6.5,-4.59) 29(-5.5,4.59) 30(-5.5,-4.59) 31(-4.5,4.59) 32(-4.5,-4.59) 33(-3.5,4.59) 34(-3.5,-4.59) 35(-2.5,4.59) 36(-2.5,-4.59) 37(-1.5,4.59) 38(-1.5,-4.59) 39(-0.5,4.59) 40(-0.5,-4.59) 41(0.5,4.59) 42(0.5,-4.59) 43(1.5,4.59) 44(1.5,-4.59) 45(2.5,4.59) 46(2.5,-4.59) 47(3.5,4.59) 48(3.5,-4.59) 49(4.5,4.59) 50(4.5,-4.59) 51(5.5,4.59) 52(5.5,-4.59) 53(6.5,4.59) 54(6.5,-4.59) 55(7.5,4.59) 56(7.5,-4.59) 57(8.5,4.59) 58(8.5,-4.59) 59(9.5,4.59) 60(9.5,-4.59) 61(10.5,4.59) 62(10.5,-4.59) 63(11.5,4.59) 64(11.5,-4.59) 65(12.5,4.59) 66(12.5,-4.59) 67(13.5,4.59) 68(13.5,-4.59) 69(14.5,4.59) 70(14.5,-4.59) 71(15.5,4.59) 72(15.5,-4.59) 73(16.5,4.59) 74(16.5,-4.59) 75(17.5,4.59) 76(17.5,-4.59) 77(18.5,4.59) 78(18.5,-4.59) 79(19.5,4.59) 80(19.5,-4.59)
F.SilkS:
  lines w0.254: -20.065,-4.49 -20.49,-4.49 -20.49,4.49 -20.065,4.49 ; 20.065,-4.49 20.49,-4.49 20.49,4.49 20.065,4.49 ; -19.764,5.937 -19.236,5.937 -19.5,5.48 -19.764,5.937
Top Assembly:
  lines w0.254: -20,4.38 -19.5,3.58 -19,4.38 ; -20.38,-4.38 20.38,-4.38 20.38,4.38 -20.38,4.38 -20.38,-4.38
  text "'.Designator'" at -4.047,-0.84 h1
Top Courtyard:
  lines w0.254: -20.88,-5.72 20.88,-5.72 20.88,5.72 -20.88,5.72 -20.88,-5.72
Top Designator:
  text ".Designator" at -7.618,-0.399 h1.52